# EAGLE library part ADS7867 (library ICs)
10 Bit Analog to Digital Converter 1 Input 1 SAR SOT-23-6
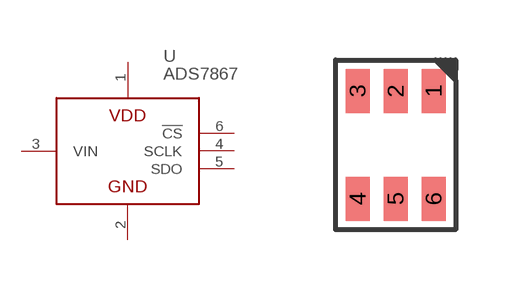
[diagram p322: symbol with the pads of SOT23-6; footprint SOT23-6]

Designator prefix U

## ADS7867IDBVR (DIGIKEY: 296-49542-1-ND; HEIGHT: 2; PRICE_PER: 2.27; VALUE: ADS7867)  [SOT23-6]
1  VDD
2  GND
3  VIN
4  SCLK
5  SDO
6  !CS

## Footprint SOT23-6 (pad centres in mm)
smd 0.6 x 1.1: 1 0.95,1.35; 2 0,1.35; 3 -0.95,1.35; 4 -0.95,-1.35; 5 0,-1.35; 6 0.95,-1.35